# Altium schematic symbol library Triacs.SchLib: 1 symbol
Pins are listed as number, name and electrical type; pins without a type are passive.

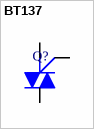
[diagram p0: symbol BT137]

## BT137
designator Q?  (value not drawn)
Triac 600V, 8A
footprint TO-220
footprint TO-252
pins: 1, 2, 3